# Altium schematic symbol library SN74HC21DT.SchLib: 1 symbol
Pins are listed as number, name and electrical type; pins without a type are passive.

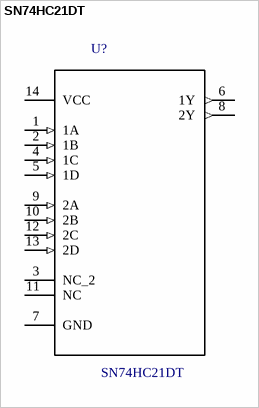
[diagram p0: symbol SN74HC21DT]

## SN74HC21DT
designator U?
Dual 4-Input Positive-AND Gates 14-SOIC -40 to 85; MF: Texas Instruments; Price: 0.39 USD; MP: SN74HC21DT; Package: SOIC-14 Texas Instruments; SnapEDA_Link: https://www.snapeda.com/parts/SN74HC21DT/Texas%20Instruments/view-part/?ref=snap; Availability: Good; Value: *
footprint SOIC127P600X175-14N
pins: 1 1A (in), 2 1B (in), 3 NC_2, 4 1C (in), 5 1D (in), 6 1Y (out), 7 GND, 8 2Y (out), 9 2A (in), 10 2B (in), 11 NC, 12 2C (in), 13 2D (in), 14 VCC (power)